# Altium schematic symbol library IC.SchLib: 2 symbols
Pins are listed as number, name and electrical type; pins without a type are passive.

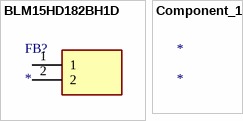
[diagram p0: symbols BLM15HD182BH1D to Component_1]

## BLM15HD182BH1D
designator FB?
Ferrite Bead; Manufacturer_Name: Murata Electronics; Manufacturer_Part_Number: BLM15HD182BH1D; Description: Ferrite Beads 0402in 1800ohm 20mA AEC-Q200 150degC; Datasheet Link: http://www.murata.com/~/media/webrenewal/support/library/catalog/products/emc/emifil/c31e.ashx?la=en-gb; Height: 0.55mm; Mouser Part Number: 81-BLM15HD182BH1D; Mouser Price/Stock: https://www.mouser.co.uk/ProductDetail/Murata-Electronics/BLM15HD182BH1D?qs=DRkmTr78QATcspeoIXwwTQ%3D%3D
footprint NFZ15SG152SN10B
pins: 1, 2

## Component_1
designator *